# EAGLE library part TMBG240128 (library DodoLcd)
TRI-T COMPANY LIMITED TMBG240128TA-W-SN-LED05-W 240 X 128 LCD MODULE DISPLAY
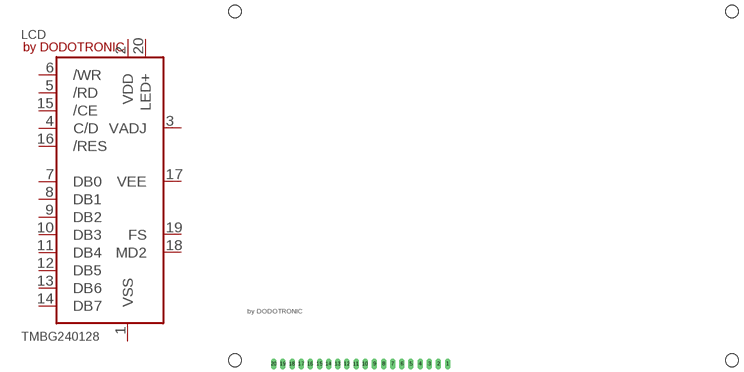
[diagram p5: symbol with the pads of TMBG240128; footprint TMBG240128]

Designator prefix LCD

## TMBG240128  [TMBG240128]
1  VSS
2  VDD
3  VADJ
4  C/D
5  /RD
6  /WR
7  DB0
8  DB1
9  DB2
10  DB3
11  DB4
12  DB5
13  DB6
14  DB7
15  /CE
16  /RES
17  VEE
18  MD2
19  FS
20  LED+

## Footprint TMBG240128 (pad centres in mm)
TRI-T COMPANY LIMITED 240 x 128 LCD MODULE DISPLAY TMBG240128TA-04
drill 1 long: 1 62,2.5; 2 59.46,2.5; 3 56.92,2.5; 4 54.38,2.5; 5 51.84,2.5; 6 49.3,2.5; 7 46.76,2.5; 8 44.22,2.5; 9 41.68,2.5; 10 39.14,2.5; 11 36.6,2.5; 12 34.06,2.5; 13 31.52,2.5; 14 28.98,2.5; 15 26.44,2.5; 16 23.9,2.5; 17 21.36,2.5; 18 18.82,2.5; 19 16.28,2.5; 20 13.74,2.5
hole 3.5 at 3,3.5
hole 3.5 at 141,3.5
hole 3.5 at 141,100.5
hole 3.5 at 3,100.5